# Altium integrated library Analog Devices Interface and Isolation Digital Isolators.IntLib: 644 symbols (part 17 of 37)
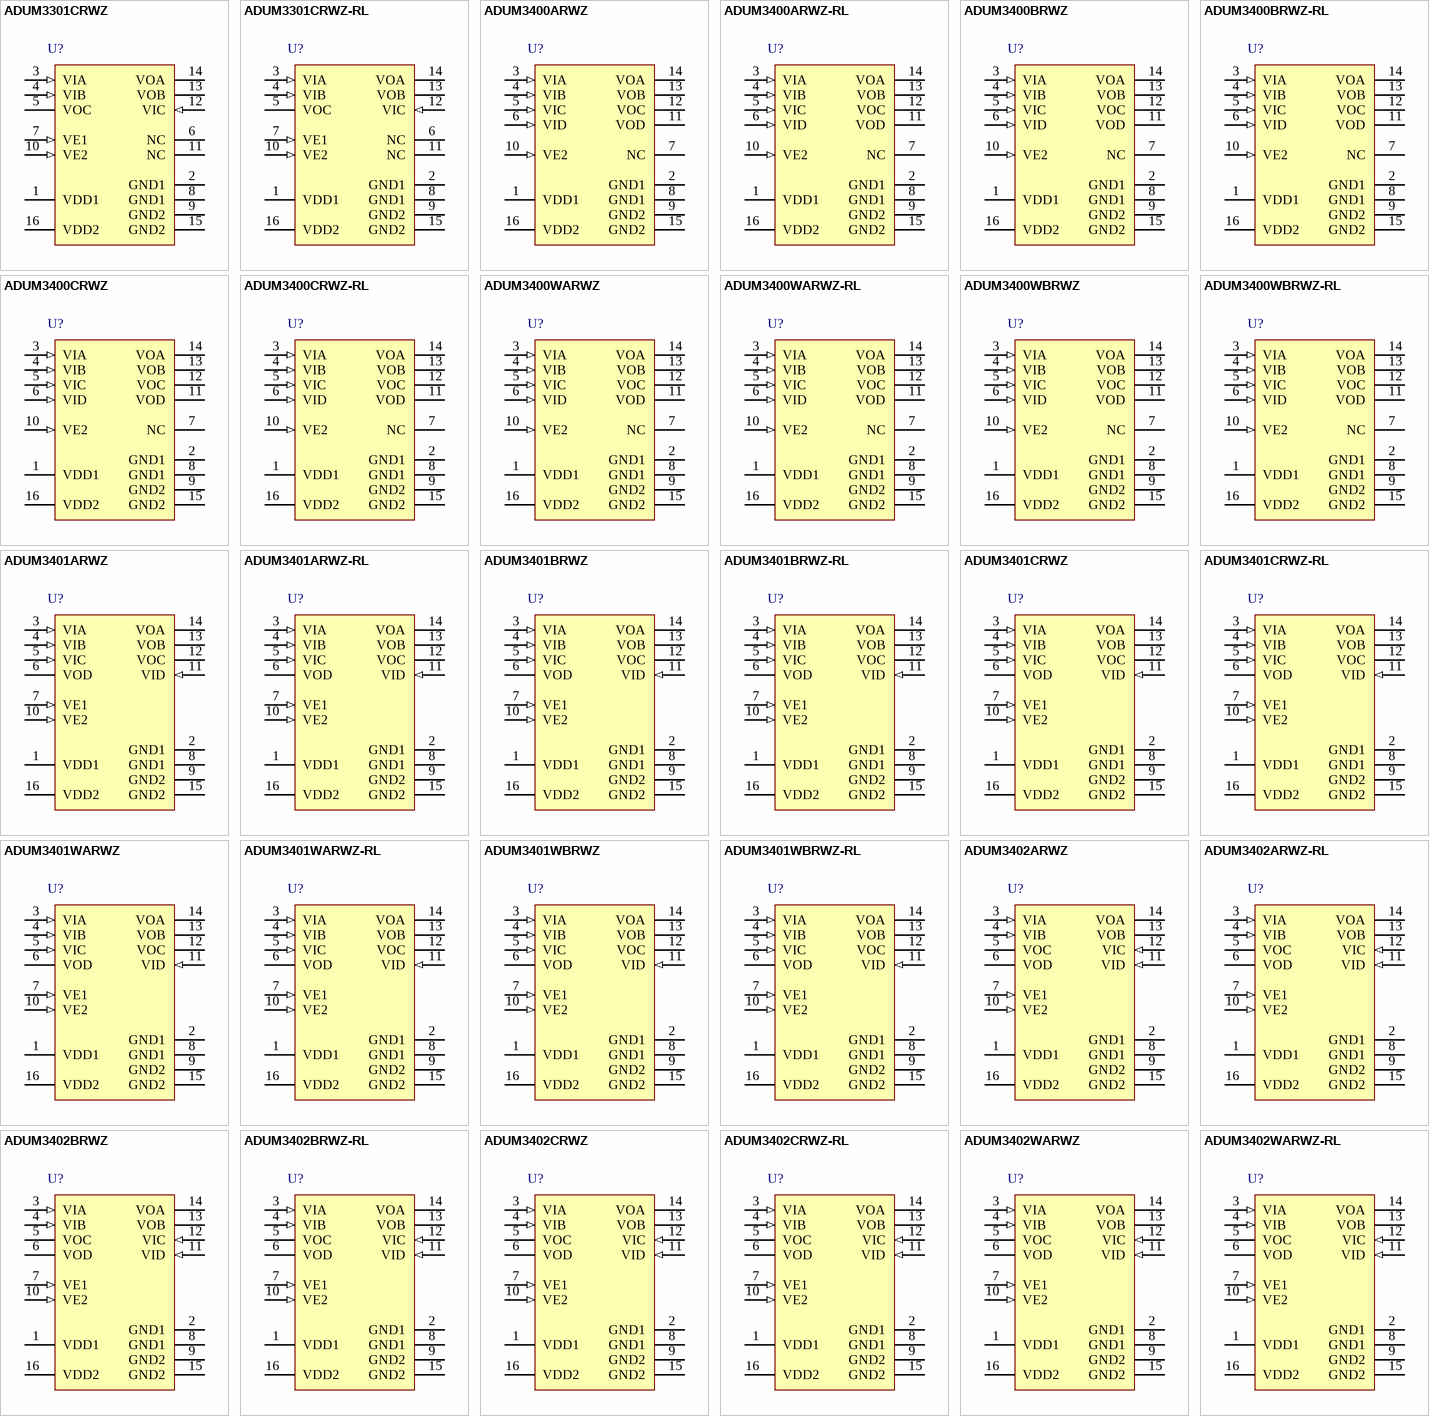
[diagram p36: symbols ADUM3301CRWZ to ADUM3402WARWZ-RL]

## ADUM3401ARWZ-RL
designator U?
Quad Channel Digital Isolator, Enhanced System-Level ESD Reliability, 2.5 KV rms Insulation Rating, 1 Mbps Data Rate, 100 ns Delay, Industrial, 16-pin SOIC (RW-16), Reel; Manufacturer: Analog Devices; PartNumber: ADUM3401ARWZ-RL; Insulation Rating (kVrms): 2.5; Max Data Rate: 1Mbps; DatasheetVersion: Rev. B; PackageVersion: 032707-B, 03/2007; PackageReference: RW-16; PackageDescription: 16-Pin Standard Small Outline Package, Body 10.3 x 7.5 mm, Pitch 1.27 mm; Supplier 1: Digi-Key; Supplier Part Number 1: ADUM3401ARWZ-RLTR-ND; Supplier 2: Digi-Key; Supplier Part Number 2: ADUM3401ARWZ-RLCT-ND; Supplier 3: Digi-Key; Supplier Part Number 3: ADUM3401ARWZ-RLDKR-ND; Supplier 4: Mouser; Supplier Part Number 4: 584-ADUM3401ARWZ-R; Max Operating Temp (degreesC): 105; Mounting Technology: Surface Mount; Code_JEDEC: MS-013-AA; ComponentLink1Description: Manufacturer URL; ComponentLink1URL: http://www.analog.com/en/index.html; ComponentLink2Description: Datasheet; ComponentLink2URL: http://www.analog.com/static/imported-files/data_sheets/ADUM3400_3401_3402.pdf; ComponentLink3Description: Package Specification; ComponentLink3URL: http://www.analog.com/static/imported-files/packages/PKG_PDF/SOIC_WIDE%20%28RW%29/RW_16.pdf; ComponentLink4Description: URL Link1; ComponentLink4URL: Product URL:http://www.analog.com/en/interface-isolation/digital-isolators/adum3401/products/product.html
footprint ADI-RW-16_N (SOIC, 16-Leads, Body 10.3x7.5mm, Pitch 1.27mm, IPC Medium Density)
footprint ADI-RW-16_L (SOIC, 16-Leads, Body 10.3x7.5mm, Pitch 1.27mm, IPC High Density)
footprint ADI-RW-16_M (SOIC, 16-Leads, Body 10.3x7.5mm, Pitch 1.27mm, IPC Low Density)
pins: 1 VDD1 (power) "Supply Voltage for Isolator Side 1.", 2 GND1 (power) "Ground 1. Ground reference for Isolator Side 1.", 3 VIA (in) "Logic Input A.", 4 VIB (in) "Logic Input B.", 5 VIC (in) "Logic Input C.", 6 VOD (hiz) "Logic Output D.", 7 VE1 (in) "Output Enable 1. Active high logic input. VOD output is enabled when VE1 is high or disconnected. VOD is disabled when VE1 is low. In noisy environments, connecting VE1 to an external logic high or low is recommended.", 8 GND1 (power) "Ground 1. Ground reference for Isolator Side 1.", 9 GND2 (power) "Ground 2. Ground reference for Isolator Side 2.", 10 VE2 (in) "Output Enable 2. Active high logic input. VOA, VOB, and VOC outputs are enabled when VE2 is high or disconnected. VOA, VOB, and VOC outputs are disabled when VE2 is low. In noisy environments, connecting VE2 to an external (See Datasheet)", 11 VID (in) "Logic Input D.", 12 VOC (hiz) "Logic Output C.", 13 VOB (hiz) "Logic Output B.", 14 VOA (hiz) "Logic Output A.", 15 GND2 (power) "Ground 2. Ground reference for Isolator Side 2.", 16 VDD2 (power) "Supply Voltage for Isolator Side 2."

## ADUM3401BRWZ
designator U?
Quad Channel Digital Isolator, Enhanced System-Level ESD Reliability, 2.5 KV rms Insulation Rating, 10 Mbps Data Rate, 50 ns Delay, Industrial, 16-pin SOIC (RW-16), Tube; Manufacturer: Analog Devices; PartNumber: ADUM3401BRWZ; Insulation Rating (kVrms): 2.5; Max Data Rate: 10Mbps; DatasheetVersion: Rev. B; PackageVersion: 032707-B, 03/2007; PackageReference: RW-16; PackageDescription: 16-Pin Standard Small Outline Package, Body 10.3 x 7.5 mm, Pitch 1.27 mm; Supplier 1: Digi-Key; Supplier Part Number 1: ADUM3401BRWZ-ND; Supplier 2: Farnell; Supplier Part Number 2: 1274130; Supplier 3: Mouser; Supplier Part Number 3: 584-ADUM3401BRWZ; Max Operating Temp (degreesC): 105; Mounting Technology: Surface Mount; Code_JEDEC: MS-013-AA; ComponentLink1Description: Manufacturer URL; ComponentLink1URL: http://www.analog.com/en/index.html; ComponentLink2Description: Datasheet; ComponentLink2URL: http://www.analog.com/static/imported-files/data_sheets/ADUM3400_3401_3402.pdf; ComponentLink3Description: Package Specification; ComponentLink3URL: http://www.analog.com/static/imported-files/packages/PKG_PDF/SOIC_WIDE%20%28RW%29/RW_16.pdf; ComponentLink4Description: URL Link1; ComponentLink4URL: Product URL:http://www.analog.com/en/interface-isolation/digital-isolators/adum3401/products/product.html
footprint ADI-RW-16_N (SOIC, 16-Leads, Body 10.3x7.5mm, Pitch 1.27mm, IPC Medium Density)
footprint ADI-RW-16_L (SOIC, 16-Leads, Body 10.3x7.5mm, Pitch 1.27mm, IPC High Density)
footprint ADI-RW-16_M (SOIC, 16-Leads, Body 10.3x7.5mm, Pitch 1.27mm, IPC Low Density)
pins: 1 VDD1 (power) "Supply Voltage for Isolator Side 1.", 2 GND1 (power) "Ground 1. Ground reference for Isolator Side 1.", 3 VIA (in) "Logic Input A.", 4 VIB (in) "Logic Input B.", 5 VIC (in) "Logic Input C.", 6 VOD (hiz) "Logic Output D.", 7 VE1 (in) "Output Enable 1. Active high logic input. VOD output is enabled when VE1 is high or disconnected. VOD is disabled when VE1 is low. In noisy environments, connecting VE1 to an external logic high or low is recommended.", 8 GND1 (power) "Ground 1. Ground reference for Isolator Side 1.", 9 GND2 (power) "Ground 2. Ground reference for Isolator Side 2.", 10 VE2 (in) "Output Enable 2. Active high logic input. VOA, VOB, and VOC outputs are enabled when VE2 is high or disconnected. VOA, VOB, and VOC outputs are disabled when VE2 is low. In noisy environments, connecting VE2 to an external (See Datasheet)", 11 VID (in) "Logic Input D.", 12 VOC (hiz) "Logic Output C.", 13 VOB (hiz) "Logic Output B.", 14 VOA (hiz) "Logic Output A.", 15 GND2 (power) "Ground 2. Ground reference for Isolator Side 2.", 16 VDD2 (power) "Supply Voltage for Isolator Side 2."

## ADUM3401BRWZ-RL
designator U?
Quad Channel Digital Isolator, Enhanced System-Level ESD Reliability, 2.5 KV rms Insulation Rating, 10 Mbps Data Rate, 50 ns Delay, Industrial, 16-pin SOIC (RW-16), Reel; Manufacturer: Analog Devices; PartNumber: ADUM3401BRWZ-RL; Insulation Rating (kVrms): 2.5; Max Data Rate: 10Mbps; DatasheetVersion: Rev. B; PackageVersion: 032707-B, 03/2007; PackageReference: RW-16; PackageDescription: 16-Pin Standard Small Outline Package, Body 10.3 x 7.5 mm, Pitch 1.27 mm; Supplier 1: Digi-Key; Supplier Part Number 1: ADUM3401BRWZ-RLTR-ND; Supplier 2: Digi-Key; Supplier Part Number 2: ADUM3401BRWZ-RLCT-ND; Supplier 3: Digi-Key; Supplier Part Number 3: ADUM3401BRWZ-RLDKR-ND; Supplier 4: Mouser; Supplier Part Number 4: 584-ADUM3401BRWZ-R; Max Operating Temp (degreesC): 105; Mounting Technology: Surface Mount; Code_JEDEC: MS-013-AA; ComponentLink1Description: Manufacturer URL; ComponentLink1URL: http://www.analog.com/en/index.html; ComponentLink2Description: Datasheet; ComponentLink2URL: http://www.analog.com/static/imported-files/data_sheets/ADUM3400_3401_3402.pdf; ComponentLink3Description: Package Specification; ComponentLink3URL: http://www.analog.com/static/imported-files/packages/PKG_PDF/SOIC_WIDE%20%28RW%29/RW_16.pdf; ComponentLink4Description: URL Link1; ComponentLink4URL: Product URL:http://www.analog.com/en/interface-isolation/digital-isolators/adum3401/products/product.html
footprint ADI-RW-16_N (SOIC, 16-Leads, Body 10.3x7.5mm, Pitch 1.27mm, IPC Medium Density)
footprint ADI-RW-16_L (SOIC, 16-Leads, Body 10.3x7.5mm, Pitch 1.27mm, IPC High Density)
footprint ADI-RW-16_M (SOIC, 16-Leads, Body 10.3x7.5mm, Pitch 1.27mm, IPC Low Density)
pins: 1 VDD1 (power) "Supply Voltage for Isolator Side 1.", 2 GND1 (power) "Ground 1. Ground reference for Isolator Side 1.", 3 VIA (in) "Logic Input A.", 4 VIB (in) "Logic Input B.", 5 VIC (in) "Logic Input C.", 6 VOD (hiz) "Logic Output D.", 7 VE1 (in) "Output Enable 1. Active high logic input. VOD output is enabled when VE1 is high or disconnected. VOD is disabled when VE1 is low. In noisy environments, connecting VE1 to an external logic high or low is recommended.", 8 GND1 (power) "Ground 1. Ground reference for Isolator Side 1.", 9 GND2 (power) "Ground 2. Ground reference for Isolator Side 2.", 10 VE2 (in) "Output Enable 2. Active high logic input. VOA, VOB, and VOC outputs are enabled when VE2 is high or disconnected. VOA, VOB, and VOC outputs are disabled when VE2 is low. In noisy environments, connecting VE2 to an external (See Datasheet)", 11 VID (in) "Logic Input D.", 12 VOC (hiz) "Logic Output C.", 13 VOB (hiz) "Logic Output B.", 14 VOA (hiz) "Logic Output A.", 15 GND2 (power) "Ground 2. Ground reference for Isolator Side 2.", 16 VDD2 (power) "Supply Voltage for Isolator Side 2."

## ADUM3401CRWZ
designator U?
Quad Channel Digital Isolator, Enhanced System-Level ESD Reliability, 2.5 KV rms Insulation Rating, 90 Mbps Data Rate, 32 ns Delay, Industrial, 16-pin SOIC (RW-16), Tube; Manufacturer: Analog Devices; PartNumber: ADUM3401CRWZ; Insulation Rating (kVrms): 2.5; Max Data Rate: 90Mbps; DatasheetVersion: Rev. B; PackageVersion: 032707-B, 03/2007; PackageReference: RW-16; PackageDescription: 16-Pin Standard Small Outline Package, Body 10.3 x 7.5 mm, Pitch 1.27 mm; Supplier 1: Digi-Key; Supplier Part Number 1: ADUM3401CRWZ-ND; Supplier 2: Farnell; Supplier Part Number 2: 1274129; Supplier 3: Mouser; Supplier Part Number 3: 584-ADUM3401CRWZ; Max Operating Temp (degreesC): 105; Mounting Technology: Surface Mount; Code_JEDEC: MS-013-AA; ComponentLink1Description: Manufacturer URL; ComponentLink1URL: http://www.analog.com/en/index.html; ComponentLink2Description: Datasheet; ComponentLink2URL: http://www.analog.com/static/imported-files/data_sheets/ADUM3400_3401_3402.pdf; ComponentLink3Description: Package Specification; ComponentLink3URL: http://www.analog.com/static/imported-files/packages/PKG_PDF/SOIC_WIDE%20%28RW%29/RW_16.pdf; ComponentLink4Description: URL Link1; ComponentLink4URL: Product URL:http://www.analog.com/en/interface-isolation/digital-isolators/adum3401/products/product.html
footprint ADI-RW-16_N (SOIC, 16-Leads, Body 10.3x7.5mm, Pitch 1.27mm, IPC Medium Density)
footprint ADI-RW-16_L (SOIC, 16-Leads, Body 10.3x7.5mm, Pitch 1.27mm, IPC High Density)
footprint ADI-RW-16_M (SOIC, 16-Leads, Body 10.3x7.5mm, Pitch 1.27mm, IPC Low Density)
pins: 1 VDD1 (power) "Supply Voltage for Isolator Side 1.", 2 GND1 (power) "Ground 1. Ground reference for Isolator Side 1.", 3 VIA (in) "Logic Input A.", 4 VIB (in) "Logic Input B.", 5 VIC (in) "Logic Input C.", 6 VOD (hiz) "Logic Output D.", 7 VE1 (in) "Output Enable 1. Active high logic input. VOD output is enabled when VE1 is high or disconnected. VOD is disabled when VE1 is low. In noisy environments, connecting VE1 to an external logic high or low is recommended.", 8 GND1 (power) "Ground 1. Ground reference for Isolator Side 1.", 9 GND2 (power) "Ground 2. Ground reference for Isolator Side 2.", 10 VE2 (in) "Output Enable 2. Active high logic input. VOA, VOB, and VOC outputs are enabled when VE2 is high or disconnected. VOA, VOB, and VOC outputs are disabled when VE2 is low. In noisy environments, connecting VE2 to an external (See Datasheet)", 11 VID (in) "Logic Input D.", 12 VOC (hiz) "Logic Output C.", 13 VOB (hiz) "Logic Output B.", 14 VOA (hiz) "Logic Output A.", 15 GND2 (power) "Ground 2. Ground reference for Isolator Side 2.", 16 VDD2 (power) "Supply Voltage for Isolator Side 2."

## ADUM3401CRWZ-RL
designator U?
Quad Channel Digital Isolator, Enhanced System-Level ESD Reliability, 2.5 KV rms Insulation Rating, 90 Mbps Data Rate, 32 ns Delay, Industrial, 16-pin SOIC (RW-16), Reel; Manufacturer: Analog Devices; PartNumber: ADUM3401CRWZ-RL; Insulation Rating (kVrms): 2.5; Max Data Rate: 90Mbps; DatasheetVersion: Rev. B; PackageVersion: 032707-B, 03/2007; PackageReference: RW-16; PackageDescription: 16-Pin Standard Small Outline Package, Body 10.3 x 7.5 mm, Pitch 1.27 mm; Supplier 1: Digi-Key; Supplier Part Number 1: ADUM3401CRWZ-RL-ND; Supplier 2: Mouser; Supplier Part Number 2: 584-ADUM3401CRWZ-R; Max Operating Temp (degreesC): 105; Mounting Technology: Surface Mount; Code_JEDEC: MS-013-AA; ComponentLink1Description: Manufacturer URL; ComponentLink1URL: http://www.analog.com/en/index.html; ComponentLink2Description: Datasheet; ComponentLink2URL: http://www.analog.com/static/imported-files/data_sheets/ADUM3400_3401_3402.pdf; ComponentLink3Description: Package Specification; ComponentLink3URL: http://www.analog.com/static/imported-files/packages/PKG_PDF/SOIC_WIDE%20%28RW%29/RW_16.pdf; ComponentLink4Description: URL Link1; ComponentLink4URL: Product URL:http://www.analog.com/en/interface-isolation/digital-isolators/adum3401/products/product.html
footprint ADI-RW-16_N (SOIC, 16-Leads, Body 10.3x7.5mm, Pitch 1.27mm, IPC Medium Density)
footprint ADI-RW-16_L (SOIC, 16-Leads, Body 10.3x7.5mm, Pitch 1.27mm, IPC High Density)
footprint ADI-RW-16_M (SOIC, 16-Leads, Body 10.3x7.5mm, Pitch 1.27mm, IPC Low Density)
pins: 1 VDD1 (power) "Supply Voltage for Isolator Side 1.", 2 GND1 (power) "Ground 1. Ground reference for Isolator Side 1.", 3 VIA (in) "Logic Input A.", 4 VIB (in) "Logic Input B.", 5 VIC (in) "Logic Input C.", 6 VOD (hiz) "Logic Output D.", 7 VE1 (in) "Output Enable 1. Active high logic input. VOD output is enabled when VE1 is high or disconnected. VOD is disabled when VE1 is low. In noisy environments, connecting VE1 to an external logic high or low is recommended.", 8 GND1 (power) "Ground 1. Ground reference for Isolator Side 1.", 9 GND2 (power) "Ground 2. Ground reference for Isolator Side 2.", 10 VE2 (in) "Output Enable 2. Active high logic input. VOA, VOB, and VOC outputs are enabled when VE2 is high or disconnected. VOA, VOB, and VOC outputs are disabled when VE2 is low. In noisy environments, connecting VE2 to an external (See Datasheet)", 11 VID (in) "Logic Input D.", 12 VOC (hiz) "Logic Output C.", 13 VOB (hiz) "Logic Output B.", 14 VOA (hiz) "Logic Output A.", 15 GND2 (power) "Ground 2. Ground reference for Isolator Side 2.", 16 VDD2 (power) "Supply Voltage for Isolator Side 2."

## ADUM3401WARWZ
designator U?
Quad Channel Digital Isolator, Enhanced System-Level ESD Reliability, 2.5 KV rms Insulation Rating, 1 Mbps Data Rate, 100 ns Delay, Automotive, 16-pin SOIC (RW-16), Tube; Manufacturer: Analog Devices; PartNumber: ADUM3401WARWZ; Automotive Qualified: Yes; Insulation Rating (kVrms): 2.5; Max Data Rate: 1Mbps; DatasheetVersion: Rev. B; PackageVersion: 032707-B, 03/2007; PackageReference: RW-16; PackageDescription: 16-Pin Standard Small Outline Package, Body 10.3 x 7.5 mm, Pitch 1.27 mm; Supplier 1: Digi-Key; Supplier Part Number 1: ADUM3401WARWZ-ND; Supplier 2: Mouser; Supplier Part Number 2: N/A; Max Operating Temp (degreesC): 105; Mounting Technology: Surface Mount; Code_JEDEC: MS-013-AA; ComponentLink1Description: Manufacturer URL; ComponentLink1URL: http://www.analog.com/en/index.html; ComponentLink2Description: Datasheet; ComponentLink2URL: http://www.analog.com/static/imported-files/data_sheets/ADUM3400_3401_3402.pdf; ComponentLink3Description: Package Specification; ComponentLink3URL: http://www.analog.com/static/imported-files/packages/PKG_PDF/SOIC_WIDE%20%28RW%29/RW_16.pdf; ComponentLink4Description: URL Link1; ComponentLink4URL: Product URL:http://www.analog.com/en/interface-isolation/digital-isolators/adum3401/products/product.html
footprint ADI-RW-16_N (SOIC, 16-Leads, Body 10.3x7.5mm, Pitch 1.27mm, IPC Medium Density)
footprint ADI-RW-16_L (SOIC, 16-Leads, Body 10.3x7.5mm, Pitch 1.27mm, IPC High Density)
footprint ADI-RW-16_M (SOIC, 16-Leads, Body 10.3x7.5mm, Pitch 1.27mm, IPC Low Density)
pins: 1 VDD1 (power) "Supply Voltage for Isolator Side 1.", 2 GND1 (power) "Ground 1. Ground reference for Isolator Side 1.", 3 VIA (in) "Logic Input A.", 4 VIB (in) "Logic Input B.", 5 VIC (in) "Logic Input C.", 6 VOD (hiz) "Logic Output D.", 7 VE1 (in) "Output Enable 1. Active high logic input. VOD output is enabled when VE1 is high or disconnected. VOD is disabled when VE1 is low. In noisy environments, connecting VE1 to an external logic high or low is recommended.", 8 GND1 (power) "Ground 1. Ground reference for Isolator Side 1.", 9 GND2 (power) "Ground 2. Ground reference for Isolator Side 2.", 10 VE2 (in) "Output Enable 2. Active high logic input. VOA, VOB, and VOC outputs are enabled when VE2 is high or disconnected. VOA, VOB, and VOC outputs are disabled when VE2 is low. In noisy environments, connecting VE2 to an external (See Datasheet)", 11 VID (in) "Logic Input D.", 12 VOC (hiz) "Logic Output C.", 13 VOB (hiz) "Logic Output B.", 14 VOA (hiz) "Logic Output A.", 15 GND2 (power) "Ground 2. Ground reference for Isolator Side 2.", 16 VDD2 (power) "Supply Voltage for Isolator Side 2."

## ADUM3401WARWZ-RL
designator U?
Quad Channel Digital Isolator, Enhanced System-Level ESD Reliability, 2.5 KV rms Insulation Rating, 1 Mbps Data Rate, 100 ns Delay, Automotive, 16-pin SOIC (RW-16), Reel; Manufacturer: Analog Devices; PartNumber: ADUM3401WARWZ-RL; Automotive Qualified: Yes; Insulation Rating (kVrms): 2.5; Max Data Rate: 1Mbps; DatasheetVersion: Rev. B; PackageVersion: 032707-B, 03/2007; PackageReference: RW-16; PackageDescription: 16-Pin Standard Small Outline Package, Body 10.3 x 7.5 mm, Pitch 1.27 mm; Supplier 1: Digi-Key; Supplier Part Number 1: ADUM3401WARWZ-RL-ND; Supplier 2: Mouser; Supplier Part Number 2: N/A; Max Operating Temp (degreesC): 105; Mounting Technology: Surface Mount; Code_JEDEC: MS-013-AA; ComponentLink1Description: Manufacturer URL; ComponentLink1URL: http://www.analog.com/en/index.html; ComponentLink2Description: Datasheet; ComponentLink2URL: http://www.analog.com/static/imported-files/data_sheets/ADUM3400_3401_3402.pdf; ComponentLink3Description: Package Specification; ComponentLink3URL: http://www.analog.com/static/imported-files/packages/PKG_PDF/SOIC_WIDE%20%28RW%29/RW_16.pdf; ComponentLink4Description: URL Link1; ComponentLink4URL: Product URL:http://www.analog.com/en/interface-isolation/digital-isolators/adum3401/products/product.html
footprint ADI-RW-16_N (SOIC, 16-Leads, Body 10.3x7.5mm, Pitch 1.27mm, IPC Medium Density)
footprint ADI-RW-16_L (SOIC, 16-Leads, Body 10.3x7.5mm, Pitch 1.27mm, IPC High Density)
footprint ADI-RW-16_M (SOIC, 16-Leads, Body 10.3x7.5mm, Pitch 1.27mm, IPC Low Density)
pins: 1 VDD1 (power) "Supply Voltage for Isolator Side 1.", 2 GND1 (power) "Ground 1. Ground reference for Isolator Side 1.", 3 VIA (in) "Logic Input A.", 4 VIB (in) "Logic Input B.", 5 VIC (in) "Logic Input C.", 6 VOD (hiz) "Logic Output D.", 7 VE1 (in) "Output Enable 1. Active high logic input. VOD output is enabled when VE1 is high or disconnected. VOD is disabled when VE1 is low. In noisy environments, connecting VE1 to an external logic high or low is recommended.", 8 GND1 (power) "Ground 1. Ground reference for Isolator Side 1.", 9 GND2 (power) "Ground 2. Ground reference for Isolator Side 2.", 10 VE2 (in) "Output Enable 2. Active high logic input. VOA, VOB, and VOC outputs are enabled when VE2 is high or disconnected. VOA, VOB, and VOC outputs are disabled when VE2 is low. In noisy environments, connecting VE2 to an external (See Datasheet)", 11 VID (in) "Logic Input D.", 12 VOC (hiz) "Logic Output C.", 13 VOB (hiz) "Logic Output B.", 14 VOA (hiz) "Logic Output A.", 15 GND2 (power) "Ground 2. Ground reference for Isolator Side 2.", 16 VDD2 (power) "Supply Voltage for Isolator Side 2."

## ADUM3401WBRWZ
designator U?
Quad Channel Digital Isolator, Enhanced System-Level ESD Reliability, 2.5 KV rms Insulation Rating, 10 Mbps Data Rate, 50 ns Delay, Automotive, 16-pin SOIC (RW-16), Tube; Manufacturer: Analog Devices; PartNumber: ADUM3401WBRWZ; Automotive Qualified: Yes; Insulation Rating (kVrms): 2.5; Max Data Rate: 10Mbps; DatasheetVersion: Rev. B; PackageVersion: 032707-B, 03/2007; PackageReference: RW-16; PackageDescription: 16-Pin Standard Small Outline Package, Body 10.3 x 7.5 mm, Pitch 1.27 mm; Supplier 1: Digi-Key; Supplier Part Number 1: ADUM3401WBRWZ-ND; Supplier 2: Mouser; Supplier Part Number 2: N/A; Max Operating Temp (degreesC): 105; Mounting Technology: Surface Mount; Code_JEDEC: MS-013-AA; ComponentLink1Description: Manufacturer URL; ComponentLink1URL: http://www.analog.com/en/index.html; ComponentLink2Description: Datasheet; ComponentLink2URL: http://www.analog.com/static/imported-files/data_sheets/ADUM3400_3401_3402.pdf; ComponentLink3Description: Package Specification; ComponentLink3URL: http://www.analog.com/static/imported-files/packages/PKG_PDF/SOIC_WIDE%20%28RW%29/RW_16.pdf; ComponentLink4Description: URL Link1; ComponentLink4URL: Product URL:http://www.analog.com/en/interface-isolation/digital-isolators/adum3401/products/product.html
footprint ADI-RW-16_N (SOIC, 16-Leads, Body 10.3x7.5mm, Pitch 1.27mm, IPC Medium Density)
footprint ADI-RW-16_L (SOIC, 16-Leads, Body 10.3x7.5mm, Pitch 1.27mm, IPC High Density)
footprint ADI-RW-16_M (SOIC, 16-Leads, Body 10.3x7.5mm, Pitch 1.27mm, IPC Low Density)
pins: 1 VDD1 (power) "Supply Voltage for Isolator Side 1.", 2 GND1 (power) "Ground 1. Ground reference for Isolator Side 1.", 3 VIA (in) "Logic Input A.", 4 VIB (in) "Logic Input B.", 5 VIC (in) "Logic Input C.", 6 VOD (hiz) "Logic Output D.", 7 VE1 (in) "Output Enable 1. Active high logic input. VOD output is enabled when VE1 is high or disconnected. VOD is disabled when VE1 is low. In noisy environments, connecting VE1 to an external logic high or low is recommended.", 8 GND1 (power) "Ground 1. Ground reference for Isolator Side 1.", 9 GND2 (power) "Ground 2. Ground reference for Isolator Side 2.", 10 VE2 (in) "Output Enable 2. Active high logic input. VOA, VOB, and VOC outputs are enabled when VE2 is high or disconnected. VOA, VOB, and VOC outputs are disabled when VE2 is low. In noisy environments, connecting VE2 to an external (See Datasheet)", 11 VID (in) "Logic Input D.", 12 VOC (hiz) "Logic Output C.", 13 VOB (hiz) "Logic Output B.", 14 VOA (hiz) "Logic Output A.", 15 GND2 (power) "Ground 2. Ground reference for Isolator Side 2.", 16 VDD2 (power) "Supply Voltage for Isolator Side 2."

## ADUM3401WBRWZ-RL
designator U?
Quad Channel Digital Isolator, Enhanced System-Level ESD Reliability, 2.5 KV rms Insulation Rating, 10 Mbps Data Rate, 50 ns Delay, Automotive, 16-pin SOIC (RW-16), Reel; Manufacturer: Analog Devices; PartNumber: ADUM3401WBRWZ-RL; Automotive Qualified: Yes; Insulation Rating (kVrms): 2.5; Max Data Rate: 10Mbps; DatasheetVersion: Rev. B; PackageVersion: 032707-B, 03/2007; PackageReference: RW-16; PackageDescription: 16-Pin Standard Small Outline Package, Body 10.3 x 7.5 mm, Pitch 1.27 mm; Supplier 1: Digi-Key; Supplier Part Number 1: ADUM3401WBRWZ-RL-ND; Supplier 2: Mouser; Supplier Part Number 2: N/A; Max Operating Temp (degreesC): 105; Mounting Technology: Surface Mount; Code_JEDEC: MS-013-AA; ComponentLink1Description: Manufacturer URL; ComponentLink1URL: http://www.analog.com/en/index.html; ComponentLink2Description: Datasheet; ComponentLink2URL: http://www.analog.com/static/imported-files/data_sheets/ADUM3400_3401_3402.pdf; ComponentLink3Description: Package Specification; ComponentLink3URL: http://www.analog.com/static/imported-files/packages/PKG_PDF/SOIC_WIDE%20%28RW%29/RW_16.pdf; ComponentLink4Description: URL Link1; ComponentLink4URL: Product URL:http://www.analog.com/en/interface-isolation/digital-isolators/adum3401/products/product.html
footprint ADI-RW-16_N (SOIC, 16-Leads, Body 10.3x7.5mm, Pitch 1.27mm, IPC Medium Density)
footprint ADI-RW-16_L (SOIC, 16-Leads, Body 10.3x7.5mm, Pitch 1.27mm, IPC High Density)
footprint ADI-RW-16_M (SOIC, 16-Leads, Body 10.3x7.5mm, Pitch 1.27mm, IPC Low Density)
pins: 1 VDD1 (power) "Supply Voltage for Isolator Side 1.", 2 GND1 (power) "Ground 1. Ground reference for Isolator Side 1.", 3 VIA (in) "Logic Input A.", 4 VIB (in) "Logic Input B.", 5 VIC (in) "Logic Input C.", 6 VOD (hiz) "Logic Output D.", 7 VE1 (in) "Output Enable 1. Active high logic input. VOD output is enabled when VE1 is high or disconnected. VOD is disabled when VE1 is low. In noisy environments, connecting VE1 to an external logic high or low is recommended.", 8 GND1 (power) "Ground 1. Ground reference for Isolator Side 1.", 9 GND2 (power) "Ground 2. Ground reference for Isolator Side 2.", 10 VE2 (in) "Output Enable 2. Active high logic input. VOA, VOB, and VOC outputs are enabled when VE2 is high or disconnected. VOA, VOB, and VOC outputs are disabled when VE2 is low. In noisy environments, connecting VE2 to an external (See Datasheet)", 11 VID (in) "Logic Input D.", 12 VOC (hiz) "Logic Output C.", 13 VOB (hiz) "Logic Output B.", 14 VOA (hiz) "Logic Output A.", 15 GND2 (power) "Ground 2. Ground reference for Isolator Side 2.", 16 VDD2 (power) "Supply Voltage for Isolator Side 2."

## ADUM3402ARWZ
designator U?
Quad Channel Digital Isolator, Enhanced System-Level ESD Reliability, 2.5 KV rms Insulation Rating, 1 Mbps Data Rate, 100 ns Delay, Industrial, 16-pin SOIC (RW-16), Tube; Manufacturer: Analog Devices; PartNumber: ADUM3402ARWZ; Insulation Rating (kVrms): 2.5; Max Data Rate: 1Mbps; DatasheetVersion: Rev. B; PackageVersion: 032707-B, 03/2007; PackageReference: RW-16; PackageDescription: 16-Pin Standard Small Outline Package, Body 10.3 x 7.5 mm, Pitch 1.27 mm; Supplier 1: Digi-Key; Supplier Part Number 1: ADUM3402ARWZ-ND; Supplier 2: Farnell; Supplier Part Number 2: 1274128; Supplier 3: Mouser; Supplier Part Number 3: 584-ADUM3402ARWZ; Max Operating Temp (degreesC): 105; Mounting Technology: Surface Mount; Code_JEDEC: MS-013-AA; ComponentLink1Description: Manufacturer URL; ComponentLink1URL: http://www.analog.com/en/index.html; ComponentLink2Description: Datasheet; ComponentLink2URL: http://www.analog.com/static/imported-files/data_sheets/ADUM3400_3401_3402.pdf; ComponentLink3Description: Package Specification; ComponentLink3URL: http://www.analog.com/static/imported-files/packages/PKG_PDF/SOIC_WIDE%20%28RW%29/RW_16.pdf; ComponentLink4Description: URL Link1; ComponentLink4URL: Product URL:http://www.analog.com/en/interface-isolation/digital-isolators/adum3402/products/product.html
footprint ADI-RW-16_N (SOIC, 16-Leads, Body 10.3x7.5mm, Pitch 1.27mm, IPC Medium Density)
footprint ADI-RW-16_L (SOIC, 16-Leads, Body 10.3x7.5mm, Pitch 1.27mm, IPC High Density)
footprint ADI-RW-16_M (SOIC, 16-Leads, Body 10.3x7.5mm, Pitch 1.27mm, IPC Low Density)
pins: 1 VDD1 (power) "Supply Voltage for Isolator Side 1.", 2 GND1 (power) "Ground 1. Ground reference for Isolator Side 1.", 3 VIA (in) "Logic Input A.", 4 VIB (in) "Logic Input B.", 5 VOC (hiz) "Logic Output C.", 6 VOD (hiz) "Logic Output D.", 7 VE1 (in) "Output Enable 1. Active high logic input. VOC and VOD outputs are enabled when VE1 is high or disconnected. VOC and VOD outputs are disabled when VE1 is low. In noisy environments, connecting VE1 to an external logic high or (See Datasheet)", 8 GND1 (power) "Ground 1. Ground reference for Isolator Side 1.", 9 GND2 (power) "Ground 2. Ground reference for Isolator Side 2.", 10 VE2 (in) "Output Enable 2. Active high logic input. VOA and VOB outputs are enabled when VE2 is high or disconnected. VOA and VOB outputs are disabled when VE2 is low. In noisy environments, connecting VE2 to an external logic high or (See Datasheet)", 11 VID (in) "Logic Input D.", 12 VIC (in) "Logic Input C.", 13 VOB (hiz) "Logic Output B.", 14 VOA (hiz) "Logic Output A.", 15 GND2 (power) "Ground 2. Ground reference for Isolator Side 2.", 16 VDD2 (power) "Supply Voltage for Isolator Side 2."

## ADUM3402ARWZ-RL
designator U?
Quad Channel Digital Isolator, Enhanced System-Level ESD Reliability, 2.5 KV rms Insulation Rating, 1 Mbps Data Rate, 100 ns Delay, Industrial, 16-pin SOIC (RW-16), Reel; Manufacturer: Analog Devices; PartNumber: ADUM3402ARWZ-RL; Insulation Rating (kVrms): 2.5; Max Data Rate: 1Mbps; DatasheetVersion: Rev. B; PackageVersion: 032707-B, 03/2007; PackageReference: RW-16; PackageDescription: 16-Pin Standard Small Outline Package, Body 10.3 x 7.5 mm, Pitch 1.27 mm; Supplier 1: Digi-Key; Supplier Part Number 1: ADUM3402ARWZ-RL-ND; Supplier 2: Mouser; Supplier Part Number 2: 584-ADUM3402ARWZ-R; Max Operating Temp (degreesC): 105; Mounting Technology: Surface Mount; Code_JEDEC: MS-013-AA; ComponentLink1Description: Manufacturer URL; ComponentLink1URL: http://www.analog.com/en/index.html; ComponentLink2Description: Datasheet; ComponentLink2URL: http://www.analog.com/static/imported-files/data_sheets/ADUM3400_3401_3402.pdf; ComponentLink3Description: Package Specification; ComponentLink3URL: http://www.analog.com/static/imported-files/packages/PKG_PDF/SOIC_WIDE%20%28RW%29/RW_16.pdf; ComponentLink4Description: URL Link1; ComponentLink4URL: Product URL:http://www.analog.com/en/interface-isolation/digital-isolators/adum3402/products/product.html
footprint ADI-RW-16_N (SOIC, 16-Leads, Body 10.3x7.5mm, Pitch 1.27mm, IPC Medium Density)
footprint ADI-RW-16_L (SOIC, 16-Leads, Body 10.3x7.5mm, Pitch 1.27mm, IPC High Density)
footprint ADI-RW-16_M (SOIC, 16-Leads, Body 10.3x7.5mm, Pitch 1.27mm, IPC Low Density)
pins: 1 VDD1 (power) "Supply Voltage for Isolator Side 1.", 2 GND1 (power) "Ground 1. Ground reference for Isolator Side 1.", 3 VIA (in) "Logic Input A.", 4 VIB (in) "Logic Input B.", 5 VOC (hiz) "Logic Output C.", 6 VOD (hiz) "Logic Output D.", 7 VE1 (in) "Output Enable 1. Active high logic input. VOC and VOD outputs are enabled when VE1 is high or disconnected. VOC and VOD outputs are disabled when VE1 is low. In noisy environments, connecting VE1 to an external logic high or (See Datasheet)", 8 GND1 (power) "Ground 1. Ground reference for Isolator Side 1.", 9 GND2 (power) "Ground 2. Ground reference for Isolator Side 2.", 10 VE2 (in) "Output Enable 2. Active high logic input. VOA and VOB outputs are enabled when VE2 is high or disconnected. VOA and VOB outputs are disabled when VE2 is low. In noisy environments, connecting VE2 to an external logic high or (See Datasheet)", 11 VID (in) "Logic Input D.", 12 VIC (in) "Logic Input C.", 13 VOB (hiz) "Logic Output B.", 14 VOA (hiz) "Logic Output A.", 15 GND2 (power) "Ground 2. Ground reference for Isolator Side 2.", 16 VDD2 (power) "Supply Voltage for Isolator Side 2."

## ADUM3402BRWZ
designator U?
Quad Channel Digital Isolator, Enhanced System-Level ESD Reliability, 2.5 KV rms Insulation Rating, 10 Mbps Data Rate, 50 ns Delay, Industrial, 16-pin SOIC (RW-16), Tube; Manufacturer: Analog Devices; PartNumber: ADUM3402BRWZ; Insulation Rating (kVrms): 2.5; Max Data Rate: 10Mbps; DatasheetVersion: Rev. B; PackageVersion: 032707-B, 03/2007; PackageReference: RW-16; PackageDescription: 16-Pin Standard Small Outline Package, Body 10.3 x 7.5 mm, Pitch 1.27 mm; Supplier 1: Digi-Key; Supplier Part Number 1: ADUM3402BRWZ-ND; Supplier 2: Farnell; Supplier Part Number 2: 1274127; Supplier 3: Mouser; Supplier Part Number 3: 584-ADUM3402BRWZ; Max Operating Temp (degreesC): 105; Mounting Technology: Surface Mount; Code_JEDEC: MS-013-AA; ComponentLink1Description: Manufacturer URL; ComponentLink1URL: http://www.analog.com/en/index.html; ComponentLink2Description: Datasheet; ComponentLink2URL: http://www.analog.com/static/imported-files/data_sheets/ADUM3400_3401_3402.pdf; ComponentLink3Description: Package Specification; ComponentLink3URL: http://www.analog.com/static/imported-files/packages/PKG_PDF/SOIC_WIDE%20%28RW%29/RW_16.pdf; ComponentLink4Description: URL Link1; ComponentLink4URL: Product URL:http://www.analog.com/en/interface-isolation/digital-isolators/adum3402/products/product.html
footprint ADI-RW-16_N (SOIC, 16-Leads, Body 10.3x7.5mm, Pitch 1.27mm, IPC Medium Density)
footprint ADI-RW-16_L (SOIC, 16-Leads, Body 10.3x7.5mm, Pitch 1.27mm, IPC High Density)
footprint ADI-RW-16_M (SOIC, 16-Leads, Body 10.3x7.5mm, Pitch 1.27mm, IPC Low Density)
pins: 1 VDD1 (power) "Supply Voltage for Isolator Side 1.", 2 GND1 (power) "Ground 1. Ground reference for Isolator Side 1.", 3 VIA (in) "Logic Input A.", 4 VIB (in) "Logic Input B.", 5 VOC (hiz) "Logic Output C.", 6 VOD (hiz) "Logic Output D.", 7 VE1 (in) "Output Enable 1. Active high logic input. VOC and VOD outputs are enabled when VE1 is high or disconnected. VOC and VOD outputs are disabled when VE1 is low. In noisy environments, connecting VE1 to an external logic high or (See Datasheet)", 8 GND1 (power) "Ground 1. Ground reference for Isolator Side 1.", 9 GND2 (power) "Ground 2. Ground reference for Isolator Side 2.", 10 VE2 (in) "Output Enable 2. Active high logic input. VOA and VOB outputs are enabled when VE2 is high or disconnected. VOA and VOB outputs are disabled when VE2 is low. In noisy environments, connecting VE2 to an external logic high or (See Datasheet)", 11 VID (in) "Logic Input D.", 12 VIC (in) "Logic Input C.", 13 VOB (hiz) "Logic Output B.", 14 VOA (hiz) "Logic Output A.", 15 GND2 (power) "Ground 2. Ground reference for Isolator Side 2.", 16 VDD2 (power) "Supply Voltage for Isolator Side 2."

## ADUM3402BRWZ-RL
designator U?
Quad Channel Digital Isolator, Enhanced System-Level ESD Reliability, 2.5 KV rms Insulation Rating, 10 Mbps Data Rate, 50 ns Delay, Industrial, 16-pin SOIC (RW-16), Reel; Manufacturer: Analog Devices; PartNumber: ADUM3402BRWZ-RL; Insulation Rating (kVrms): 2.5; Max Data Rate: 10Mbps; DatasheetVersion: Rev. B; PackageVersion: 032707-B, 03/2007; PackageReference: RW-16; PackageDescription: 16-Pin Standard Small Outline Package, Body 10.3 x 7.5 mm, Pitch 1.27 mm; Supplier 1: Digi-Key; Supplier Part Number 1: ADUM3402BRWZ-RL-ND; Supplier 2: Mouser; Supplier Part Number 2: 584-ADUM3402BRWZ-R; Max Operating Temp (degreesC): 105; Mounting Technology: Surface Mount; Code_JEDEC: MS-013-AA; ComponentLink1Description: Manufacturer URL; ComponentLink1URL: http://www.analog.com/en/index.html; ComponentLink2Description: Datasheet; ComponentLink2URL: http://www.analog.com/static/imported-files/data_sheets/ADUM3400_3401_3402.pdf; ComponentLink3Description: Package Specification; ComponentLink3URL: http://www.analog.com/static/imported-files/packages/PKG_PDF/SOIC_WIDE%20%28RW%29/RW_16.pdf; ComponentLink4Description: URL Link1; ComponentLink4URL: Product URL:http://www.analog.com/en/interface-isolation/digital-isolators/adum3402/products/product.html
footprint ADI-RW-16_N (SOIC, 16-Leads, Body 10.3x7.5mm, Pitch 1.27mm, IPC Medium Density)
footprint ADI-RW-16_L (SOIC, 16-Leads, Body 10.3x7.5mm, Pitch 1.27mm, IPC High Density)
footprint ADI-RW-16_M (SOIC, 16-Leads, Body 10.3x7.5mm, Pitch 1.27mm, IPC Low Density)
pins: 1 VDD1 (power) "Supply Voltage for Isolator Side 1.", 2 GND1 (power) "Ground 1. Ground reference for Isolator Side 1.", 3 VIA (in) "Logic Input A.", 4 VIB (in) "Logic Input B.", 5 VOC (hiz) "Logic Output C.", 6 VOD (hiz) "Logic Output D.", 7 VE1 (in) "Output Enable 1. Active high logic input. VOC and VOD outputs are enabled when VE1 is high or disconnected. VOC and VOD outputs are disabled when VE1 is low. In noisy environments, connecting VE1 to an external logic high or (See Datasheet)", 8 GND1 (power) "Ground 1. Ground reference for Isolator Side 1.", 9 GND2 (power) "Ground 2. Ground reference for Isolator Side 2.", 10 VE2 (in) "Output Enable 2. Active high logic input. VOA and VOB outputs are enabled when VE2 is high or disconnected. VOA and VOB outputs are disabled when VE2 is low. In noisy environments, connecting VE2 to an external logic high or (See Datasheet)", 11 VID (in) "Logic Input D.", 12 VIC (in) "Logic Input C.", 13 VOB (hiz) "Logic Output B.", 14 VOA (hiz) "Logic Output A.", 15 GND2 (power) "Ground 2. Ground reference for Isolator Side 2.", 16 VDD2 (power) "Supply Voltage for Isolator Side 2."

## ADUM3402CRWZ
designator U?
Quad Channel Digital Isolator, Enhanced System-Level ESD Reliability, 2.5 KV rms Insulation Rating, 90 Mbps Data Rate, 32 ns Delay, Industrial, 16-pin SOIC (RW-16), Tube; Manufacturer: Analog Devices; PartNumber: ADUM3402CRWZ; Insulation Rating (kVrms): 2.5; Max Data Rate: 90Mbps; DatasheetVersion: Rev. B; PackageVersion: 032707-B, 03/2007; PackageReference: RW-16; PackageDescription: 16-Pin Standard Small Outline Package, Body 10.3 x 7.5 mm, Pitch 1.27 mm; Supplier 1: Digi-Key; Supplier Part Number 1: ADUM3402CRWZ-ND; Supplier 2: Mouser; Supplier Part Number 2: 584-ADUM3402CRWZ; Max Operating Temp (degreesC): 105; Mounting Technology: Surface Mount; Code_JEDEC: MS-013-AA; ComponentLink1Description: Manufacturer URL; ComponentLink1URL: http://www.analog.com/en/index.html; ComponentLink2Description: Datasheet; ComponentLink2URL: http://www.analog.com/static/imported-files/data_sheets/ADUM3400_3401_3402.pdf; ComponentLink3Description: Package Specification; ComponentLink3URL: http://www.analog.com/static/imported-files/packages/PKG_PDF/SOIC_WIDE%20%28RW%29/RW_16.pdf; ComponentLink4Description: URL Link1; ComponentLink4URL: Product URL:http://www.analog.com/en/interface-isolation/digital-isolators/adum3402/products/product.html
footprint ADI-RW-16_N (SOIC, 16-Leads, Body 10.3x7.5mm, Pitch 1.27mm, IPC Medium Density)
footprint ADI-RW-16_L (SOIC, 16-Leads, Body 10.3x7.5mm, Pitch 1.27mm, IPC High Density)
footprint ADI-RW-16_M (SOIC, 16-Leads, Body 10.3x7.5mm, Pitch 1.27mm, IPC Low Density)
pins: 1 VDD1 (power) "Supply Voltage for Isolator Side 1.", 2 GND1 (power) "Ground 1. Ground reference for Isolator Side 1.", 3 VIA (in) "Logic Input A.", 4 VIB (in) "Logic Input B.", 5 VOC (hiz) "Logic Output C.", 6 VOD (hiz) "Logic Output D.", 7 VE1 (in) "Output Enable 1. Active high logic input. VOC and VOD outputs are enabled when VE1 is high or disconnected. VOC and VOD outputs are disabled when VE1 is low. In noisy environments, connecting VE1 to an external logic high or (See Datasheet)", 8 GND1 (power) "Ground 1. Ground reference for Isolator Side 1.", 9 GND2 (power) "Ground 2. Ground reference for Isolator Side 2.", 10 VE2 (in) "Output Enable 2. Active high logic input. VOA and VOB outputs are enabled when VE2 is high or disconnected. VOA and VOB outputs are disabled when VE2 is low. In noisy environments, connecting VE2 to an external logic high or (See Datasheet)", 11 VID (in) "Logic Input D.", 12 VIC (in) "Logic Input C.", 13 VOB (hiz) "Logic Output B.", 14 VOA (hiz) "Logic Output A.", 15 GND2 (power) "Ground 2. Ground reference for Isolator Side 2.", 16 VDD2 (power) "Supply Voltage for Isolator Side 2."

## ADUM3402CRWZ-RL
designator U?
Quad Channel Digital Isolator, Enhanced System-Level ESD Reliability, 2.5 KV rms Insulation Rating, 90 Mbps Data Rate, 32 ns Delay, Industrial, 16-pin SOIC (RW-16), Reel; Manufacturer: Analog Devices; PartNumber: ADUM3402CRWZ-RL; Insulation Rating (kVrms): 2.5; Max Data Rate: 90Mbps; DatasheetVersion: Rev. B; PackageVersion: 032707-B, 03/2007; PackageReference: RW-16; PackageDescription: 16-Pin Standard Small Outline Package, Body 10.3 x 7.5 mm, Pitch 1.27 mm; Supplier 1: Digi-Key; Supplier Part Number 1: ADUM3402CRWZ-RL-ND; Supplier 2: Mouser; Supplier Part Number 2: 584-ADUM3402CRWZ-R; Max Operating Temp (degreesC): 105; Mounting Technology: Surface Mount; Code_JEDEC: MS-013-AA; ComponentLink1Description: Manufacturer URL; ComponentLink1URL: http://www.analog.com/en/index.html; ComponentLink2Description: Datasheet; ComponentLink2URL: http://www.analog.com/static/imported-files/data_sheets/ADUM3400_3401_3402.pdf; ComponentLink3Description: Package Specification; ComponentLink3URL: http://www.analog.com/static/imported-files/packages/PKG_PDF/SOIC_WIDE%20%28RW%29/RW_16.pdf; ComponentLink4Description: URL Link1; ComponentLink4URL: Product URL:http://www.analog.com/en/interface-isolation/digital-isolators/adum3402/products/product.html
footprint ADI-RW-16_N (SOIC, 16-Leads, Body 10.3x7.5mm, Pitch 1.27mm, IPC Medium Density)
footprint ADI-RW-16_L (SOIC, 16-Leads, Body 10.3x7.5mm, Pitch 1.27mm, IPC High Density)
footprint ADI-RW-16_M (SOIC, 16-Leads, Body 10.3x7.5mm, Pitch 1.27mm, IPC Low Density)
pins: 1 VDD1 (power) "Supply Voltage for Isolator Side 1.", 2 GND1 (power) "Ground 1. Ground reference for Isolator Side 1.", 3 VIA (in) "Logic Input A.", 4 VIB (in) "Logic Input B.", 5 VOC (hiz) "Logic Output C.", 6 VOD (hiz) "Logic Output D.", 7 VE1 (in) "Output Enable 1. Active high logic input. VOC and VOD outputs are enabled when VE1 is high or disconnected. VOC and VOD outputs are disabled when VE1 is low. In noisy environments, connecting VE1 to an external logic high or (See Datasheet)", 8 GND1 (power) "Ground 1. Ground reference for Isolator Side 1.", 9 GND2 (power) "Ground 2. Ground reference for Isolator Side 2.", 10 VE2 (in) "Output Enable 2. Active high logic input. VOA and VOB outputs are enabled when VE2 is high or disconnected. VOA and VOB outputs are disabled when VE2 is low. In noisy environments, connecting VE2 to an external logic high or (See Datasheet)", 11 VID (in) "Logic Input D.", 12 VIC (in) "Logic Input C.", 13 VOB (hiz) "Logic Output B.", 14 VOA (hiz) "Logic Output A.", 15 GND2 (power) "Ground 2. Ground reference for Isolator Side 2.", 16 VDD2 (power) "Supply Voltage for Isolator Side 2."

## ADUM3402WARWZ
designator U?
Quad Channel Digital Isolator, Enhanced System-Level ESD Reliability, 2.5 KV rms Insulation Rating, 1 Mbps Data Rate, 100 ns Delay, Automotive, 16-pin SOIC (RW-16), Tube; Manufacturer: Analog Devices; PartNumber: ADUM3402WARWZ; Automotive Qualified: Yes; Insulation Rating (kVrms): 2.5; Max Data Rate: 1Mbps; DatasheetVersion: Rev. B; PackageVersion: 032707-B, 03/2007; PackageReference: RW-16; PackageDescription: 16-Pin Standard Small Outline Package, Body 10.3 x 7.5 mm, Pitch 1.27 mm; Supplier 1: Digi-Key; Supplier Part Number 1: ADUM3402WARWZ-ND; Supplier 2: Mouser; Supplier Part Number 2: N/A; Max Operating Temp (degreesC): 105; Mounting Technology: Surface Mount; Code_JEDEC: MS-013-AA; ComponentLink1Description: Manufacturer URL; ComponentLink1URL: http://www.analog.com/en/index.html; ComponentLink2Description: Datasheet; ComponentLink2URL: http://www.analog.com/static/imported-files/data_sheets/ADUM3400_3401_3402.pdf; ComponentLink3Description: Package Specification; ComponentLink3URL: http://www.analog.com/static/imported-files/packages/PKG_PDF/SOIC_WIDE%20%28RW%29/RW_16.pdf; ComponentLink4Description: URL Link1; ComponentLink4URL: Product URL:http://www.analog.com/en/interface-isolation/digital-isolators/adum3402/products/product.html
footprint ADI-RW-16_N (SOIC, 16-Leads, Body 10.3x7.5mm, Pitch 1.27mm, IPC Medium Density)
footprint ADI-RW-16_L (SOIC, 16-Leads, Body 10.3x7.5mm, Pitch 1.27mm, IPC High Density)
footprint ADI-RW-16_M (SOIC, 16-Leads, Body 10.3x7.5mm, Pitch 1.27mm, IPC Low Density)
pins: 1 VDD1 (power) "Supply Voltage for Isolator Side 1.", 2 GND1 (power) "Ground 1. Ground reference for Isolator Side 1.", 3 VIA (in) "Logic Input A.", 4 VIB (in) "Logic Input B.", 5 VOC (hiz) "Logic Output C.", 6 VOD (hiz) "Logic Output D.", 7 VE1 (in) "Output Enable 1. Active high logic input. VOC and VOD outputs are enabled when VE1 is high or disconnected. VOC and VOD outputs are disabled when VE1 is low. In noisy environments, connecting VE1 to an external logic high or (See Datasheet)", 8 GND1 (power) "Ground 1. Ground reference for Isolator Side 1.", 9 GND2 (power) "Ground 2. Ground reference for Isolator Side 2.", 10 VE2 (in) "Output Enable 2. Active high logic input. VOA and VOB outputs are enabled when VE2 is high or disconnected. VOA and VOB outputs are disabled when VE2 is low. In noisy environments, connecting VE2 to an external logic high or (See Datasheet)", 11 VID (in) "Logic Input D.", 12 VIC (in) "Logic Input C.", 13 VOB (hiz) "Logic Output B.", 14 VOA (hiz) "Logic Output A.", 15 GND2 (power) "Ground 2. Ground reference for Isolator Side 2.", 16 VDD2 (power) "Supply Voltage for Isolator Side 2."

## ADUM3402WARWZ-RL
designator U?
Quad Channel Digital Isolator, Enhanced System-Level ESD Reliability, 2.5 KV rms Insulation Rating, 1 Mbps Data Rate, 100 ns Delay, Automotive, 16-pin SOIC (RW-16), Reel; Manufacturer: Analog Devices; PartNumber: ADUM3402WARWZ-RL; Automotive Qualified: Yes; Insulation Rating (kVrms): 2.5; Max Data Rate: 1Mbps; DatasheetVersion: Rev. B; PackageVersion: 032707-B, 03/2007; PackageReference: RW-16; PackageDescription: 16-Pin Standard Small Outline Package, Body 10.3 x 7.5 mm, Pitch 1.27 mm; Supplier 1: Digi-Key; Supplier Part Number 1: ADUM3402WARWZ-RL-ND; Supplier 2: Mouser; Supplier Part Number 2: N/A; Max Operating Temp (degreesC): 105; Mounting Technology: Surface Mount; Code_JEDEC: MS-013-AA; ComponentLink1Description: Manufacturer URL; ComponentLink1URL: http://www.analog.com/en/index.html; ComponentLink2Description: Datasheet; ComponentLink2URL: http://www.analog.com/static/imported-files/data_sheets/ADUM3400_3401_3402.pdf; ComponentLink3Description: Package Specification; ComponentLink3URL: http://www.analog.com/static/imported-files/packages/PKG_PDF/SOIC_WIDE%20%28RW%29/RW_16.pdf; ComponentLink4Description: URL Link1; ComponentLink4URL: Product URL:http://www.analog.com/en/interface-isolation/digital-isolators/adum3402/products/product.html
footprint ADI-RW-16_N (SOIC, 16-Leads, Body 10.3x7.5mm, Pitch 1.27mm, IPC Medium Density)
footprint ADI-RW-16_L (SOIC, 16-Leads, Body 10.3x7.5mm, Pitch 1.27mm, IPC High Density)
footprint ADI-RW-16_M (SOIC, 16-Leads, Body 10.3x7.5mm, Pitch 1.27mm, IPC Low Density)
pins: 1 VDD1 (power) "Supply Voltage for Isolator Side 1.", 2 GND1 (power) "Ground 1. Ground reference for Isolator Side 1.", 3 VIA (in) "Logic Input A.", 4 VIB (in) "Logic Input B.", 5 VOC (hiz) "Logic Output C.", 6 VOD (hiz) "Logic Output D.", 7 VE1 (in) "Output Enable 1. Active high logic input. VOC and VOD outputs are enabled when VE1 is high or disconnected. VOC and VOD outputs are disabled when VE1 is low. In noisy environments, connecting VE1 to an external logic high or (See Datasheet)", 8 GND1 (power) "Ground 1. Ground reference for Isolator Side 1.", 9 GND2 (power) "Ground 2. Ground reference for Isolator Side 2.", 10 VE2 (in) "Output Enable 2. Active high logic input. VOA and VOB outputs are enabled when VE2 is high or disconnected. VOA and VOB outputs are disabled when VE2 is low. In noisy environments, connecting VE2 to an external logic high or (See Datasheet)", 11 VID (in) "Logic Input D.", 12 VIC (in) "Logic Input C.", 13 VOB (hiz) "Logic Output B.", 14 VOA (hiz) "Logic Output A.", 15 GND2 (power) "Ground 2. Ground reference for Isolator Side 2.", 16 VDD2 (power) "Supply Voltage for Isolator Side 2."

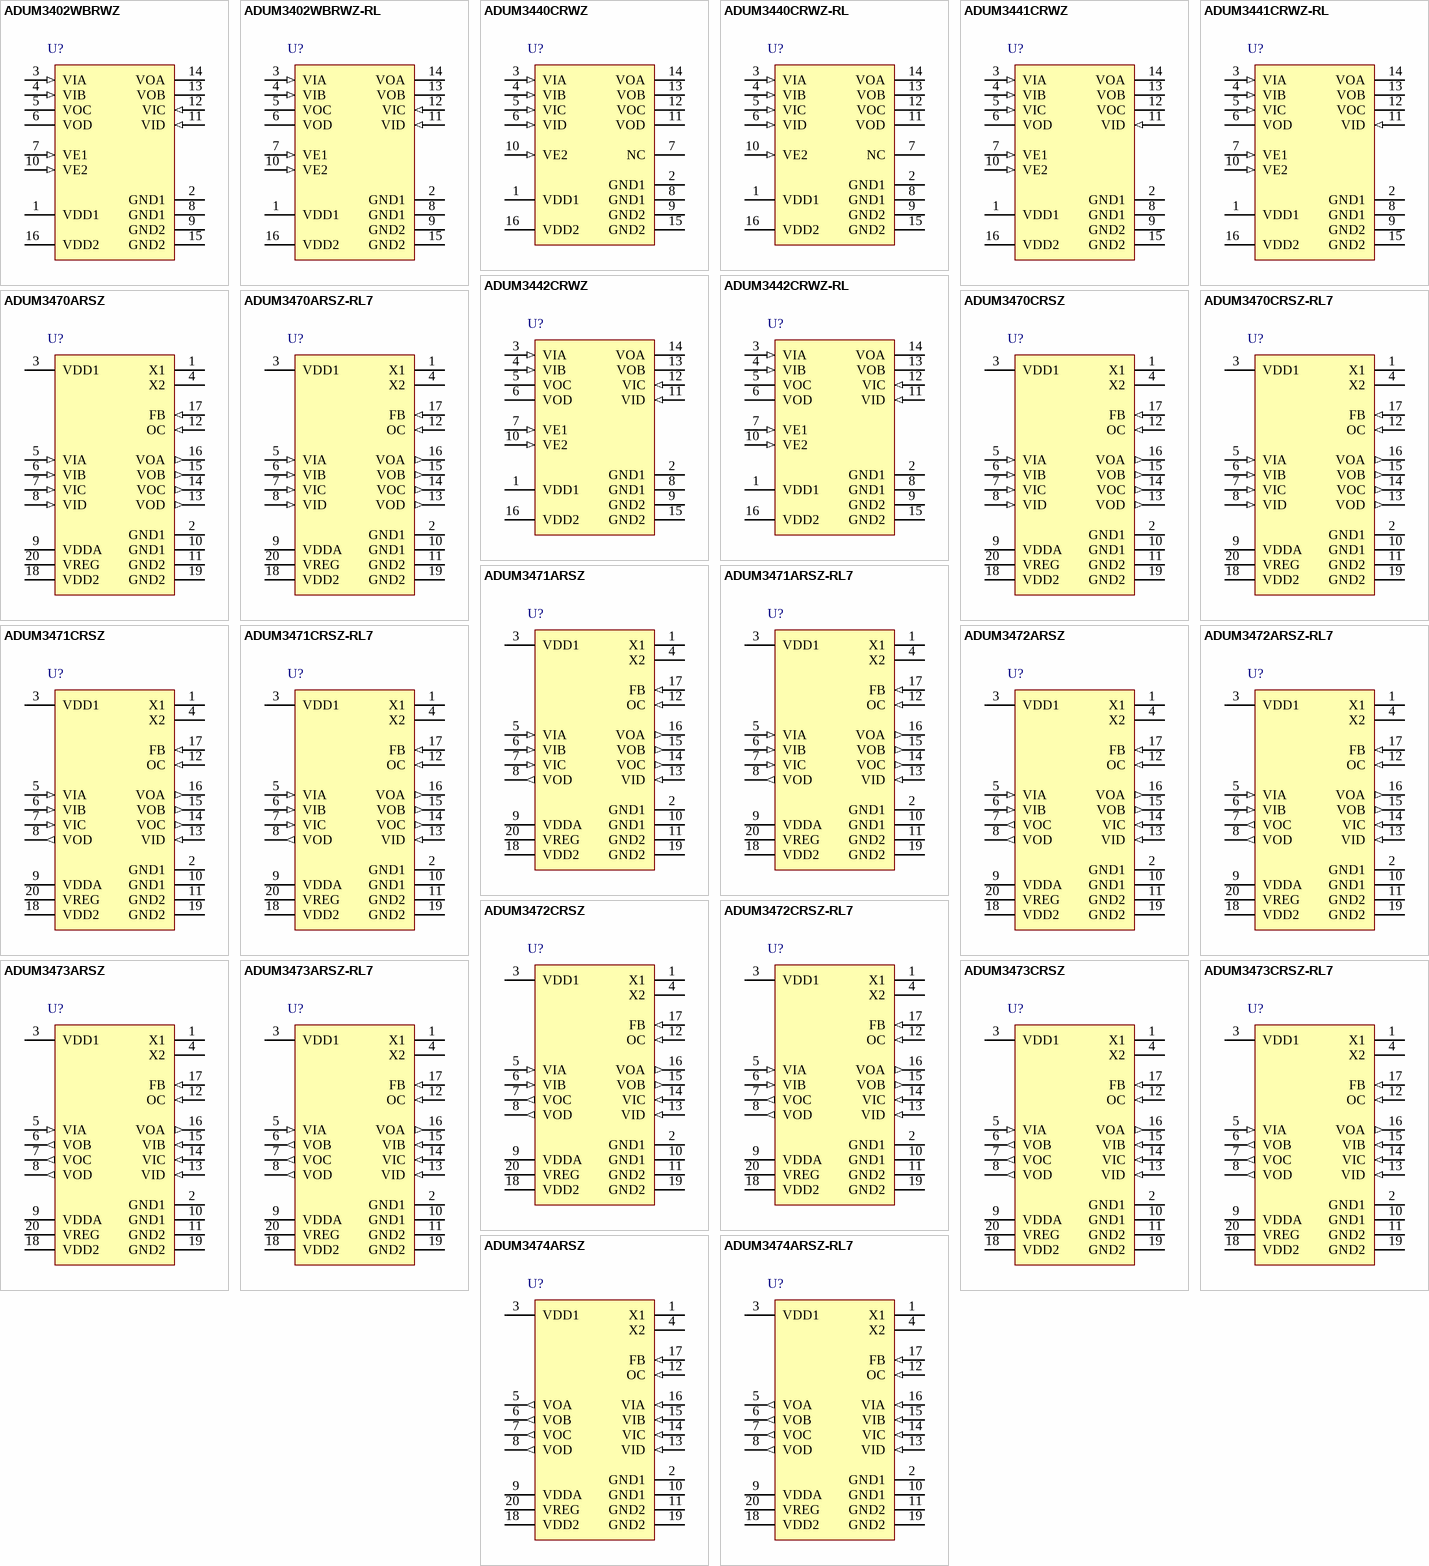
[diagram p11: symbols ADUM3402WBRWZ to ADUM3474ARSZ-RL7]

## ADUM3402WBRWZ
designator U?
Quad Channel Digital Isolator, Enhanced System-Level ESD Reliability, 2.5 KV rms Insulation Rating, 10 Mbps Data Rate, 50 ns Delay, Automotive, 16-pin SOIC (RW-16), Tube; Manufacturer: Analog Devices; PartNumber: ADUM3402WBRWZ; Automotive Qualified: Yes; Insulation Rating (kVrms): 2.5; Max Data Rate: 10Mbps; DatasheetVersion: Rev. B; PackageVersion: 032707-B, 03/2007; PackageReference: RW-16; PackageDescription: 16-Pin Standard Small Outline Package, Body 10.3 x 7.5 mm, Pitch 1.27 mm; Supplier 1: Digi-Key; Supplier Part Number 1: ADUM3402WBRWZ-ND; Supplier 2: Mouser; Supplier Part Number 2: N/A; Max Operating Temp (degreesC): 105; Mounting Technology: Surface Mount; Code_JEDEC: MS-013-AA; ComponentLink1Description: Manufacturer URL; ComponentLink1URL: http://www.analog.com/en/index.html; ComponentLink2Description: Datasheet; ComponentLink2URL: http://www.analog.com/static/imported-files/data_sheets/ADUM3400_3401_3402.pdf; ComponentLink3Description: Package Specification; ComponentLink3URL: http://www.analog.com/static/imported-files/packages/PKG_PDF/SOIC_WIDE%20%28RW%29/RW_16.pdf; ComponentLink4Description: URL Link1; ComponentLink4URL: Product URL:http://www.analog.com/en/interface-isolation/digital-isolators/adum3402/products/product.html
footprint ADI-RW-16_N (SOIC, 16-Leads, Body 10.3x7.5mm, Pitch 1.27mm, IPC Medium Density)
footprint ADI-RW-16_L (SOIC, 16-Leads, Body 10.3x7.5mm, Pitch 1.27mm, IPC High Density)
footprint ADI-RW-16_M (SOIC, 16-Leads, Body 10.3x7.5mm, Pitch 1.27mm, IPC Low Density)
pins: 1 VDD1 (power) "Supply Voltage for Isolator Side 1.", 2 GND1 (power) "Ground 1. Ground reference for Isolator Side 1.", 3 VIA (in) "Logic Input A.", 4 VIB (in) "Logic Input B.", 5 VOC (hiz) "Logic Output C.", 6 VOD (hiz) "Logic Output D.", 7 VE1 (in) "Output Enable 1. Active high logic input. VOC and VOD outputs are enabled when VE1 is high or disconnected. VOC and VOD outputs are disabled when VE1 is low. In noisy environments, connecting VE1 to an external logic high or (See Datasheet)", 8 GND1 (power) "Ground 1. Ground reference for Isolator Side 1.", 9 GND2 (power) "Ground 2. Ground reference for Isolator Side 2.", 10 VE2 (in) "Output Enable 2. Active high logic input. VOA and VOB outputs are enabled when VE2 is high or disconnected. VOA and VOB outputs are disabled when VE2 is low. In noisy environments, connecting VE2 to an external logic high or (See Datasheet)", 11 VID (in) "Logic Input D.", 12 VIC (in) "Logic Input C.", 13 VOB (hiz) "Logic Output B.", 14 VOA (hiz) "Logic Output A.", 15 GND2 (power) "Ground 2. Ground reference for Isolator Side 2.", 16 VDD2 (power) "Supply Voltage for Isolator Side 2."